# EAGLE library part LED_X10_BAR (library Next_Make_CPW_2015)
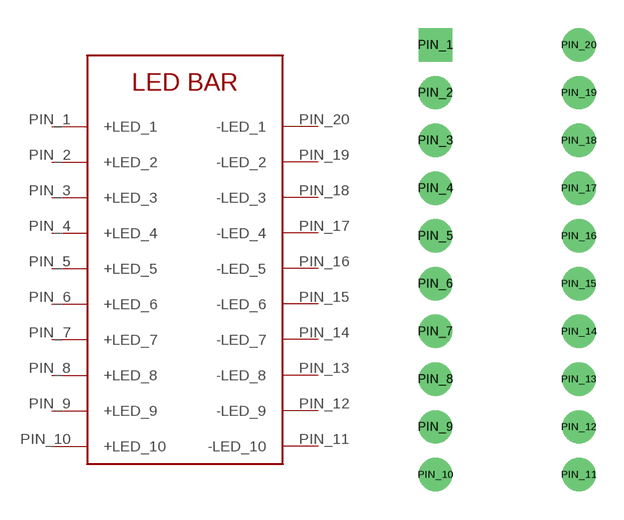
[diagram p3: symbol with the pads of LED_X10_BAR; footprint LED_X10_BAR]

Designator prefix -

## LED_X10_BAR  [LED_X10_BAR]
PIN_1  +LED_1
PIN_2  +LED_2
PIN_3  +LED_3
PIN_4  +LED_4
PIN_5  +LED_5
PIN_6  +LED_6
PIN_7  +LED_7
PIN_8  +LED_8
PIN_9  +LED_9
PIN_10  +LED_10
PIN_11  -LED_10
PIN_12  -LED_9
PIN_13  -LED_8
PIN_14  -LED_7
PIN_15  -LED_6
PIN_16  -LED_5
PIN_17  -LED_4
PIN_18  -LED_3
PIN_19  -LED_2
PIN_20  -LED_1

## Footprint LED_X10_BAR (pad centres in mm)
drill 0.762 pad 1.778 square: PIN_1 0,0
drill 0.762 pad 1.778: PIN_2 0,-2.54; PIN_3 0,-5.08; PIN_4 0,-7.62; PIN_5 0,-10.16; PIN_6 0,-12.7; PIN_7 0,-15.24; PIN_8 0,-17.78; PIN_9 0,-20.32; PIN_10 0,-22.86; PIN_11 7.62,-22.86; PIN_12 7.62,-20.32; PIN_13 7.62,-17.78; PIN_14 7.62,-15.24; PIN_15 7.62,-12.7; PIN_16 7.62,-10.16; PIN_17 7.62,-7.62; PIN_18 7.62,-5.08; PIN_19 7.62,-2.54; PIN_20 7.62,0